# Altium schematic symbol library kwa.SchLib: 2 symbols
Pins are listed as number, name and electrical type; pins without a type are passive.

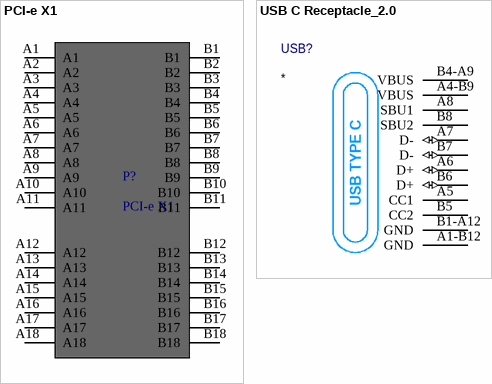
[diagram p0: symbols PCI-e X1 to USB C Receptacle_2.0]

## PCI-e X1
designator P?
footprint PCIe 1X
pins: A1, A2, A3, A4, A5, A6, A7, A8, A9, A10, A11, A12, A13, A14, A15, A16, A17, A18, B1, B2, B3, B4, B5, B6, B7, B8, B9, B10, B11, B12, B13, B14, B15, B16, B17, B18

## USB C Receptacle_2.0
designator USB?
footprint TYPE-C16PIN
footprint TYPE-C16PIN-CONNECTOR
footprint TYPE-C16PIN-GCT-COMBO
footprint TYPE-C16PIN-GCT-COMBO-CONNECTOR
pins: A1-B12 GND (power), A4-B9 VBUS (power), A5 CC1, A6 D+ (io), A7 D- (io), A8 SBU1, B1-A12 GND (power), B4-A9 VBUS (power), B5 CC2, B6 D+ (io), B7 D- (io), B8 SBU2
text: USB TYPE C